# EAGLE library part QFN-16_WITH_EP (library SnapEDA)
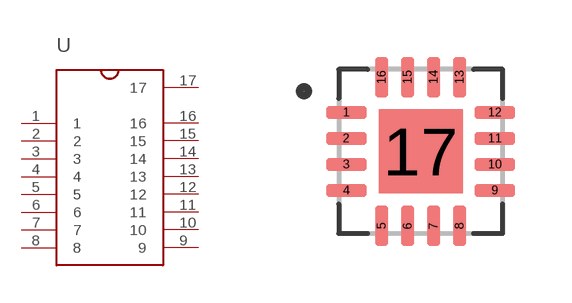
[diagram p1: symbol with the pads of QFN65P400X400X80-17N; footprint QFN65P400X400X80-17N]

Designator prefix U

## QFN-16_WITH_EP-QFN-16_EP  [QFN65P400X400X80-17N]
1  1
2  2
3  3
4  4
5  5
6  6
7  7
8  8
9  9
10  10
11  11
12  12
13  13
14  14
15  15
16  16
17  17

## Footprint QFN65P400X400X80-17N (pad centres in mm)
smd 1.01 x 0.32: 1 -1.86,0.975; 2 -1.86,0.325; 3 -1.86,-0.325; 4 -1.86,-0.975; 9 1.86,-0.975; 10 1.86,-0.325; 11 1.86,0.325; 12 1.86,0.975
smd 0.32 x 1.01: 5 -0.975,-1.86; 6 -0.325,-1.86; 7 0.325,-1.86; 8 0.975,-1.86; 13 0.975,1.86; 14 0.325,1.86; 15 -0.325,1.86; 16 -0.975,1.86
smd 2.1 x 2.1: 17 0,0